# Altium schematic symbol library C0402C689C5GACTU.SchLib: 2 symbols
Pins are listed as number, name and electrical type; pins without a type are passive.

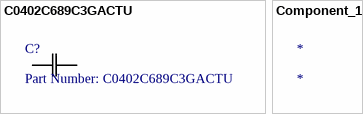
[diagram p0: symbols C0402C689C3GACTU to Component_1]

## C0402C689C3GACTU
designator C?, comment Part Number: C0402C689C3GACTU
No Description Available; Vendor: Kemet; Built_By: EMA_UL_Team; Type: DEV; Manufacturer_Part_Number: C0402C689C3GACTU; Copyright: Copyright (C) 2018 Accelerated Designs. All rights reserved; RefDes: RefDes; Value: Value
footprint C0402C
pins: 1, 2

## Component_1
designator *